# Altium schematic symbol library Schlib1.SchLib: 8 symbols
Pins are listed as number, name and electrical type; pins without a type are passive.

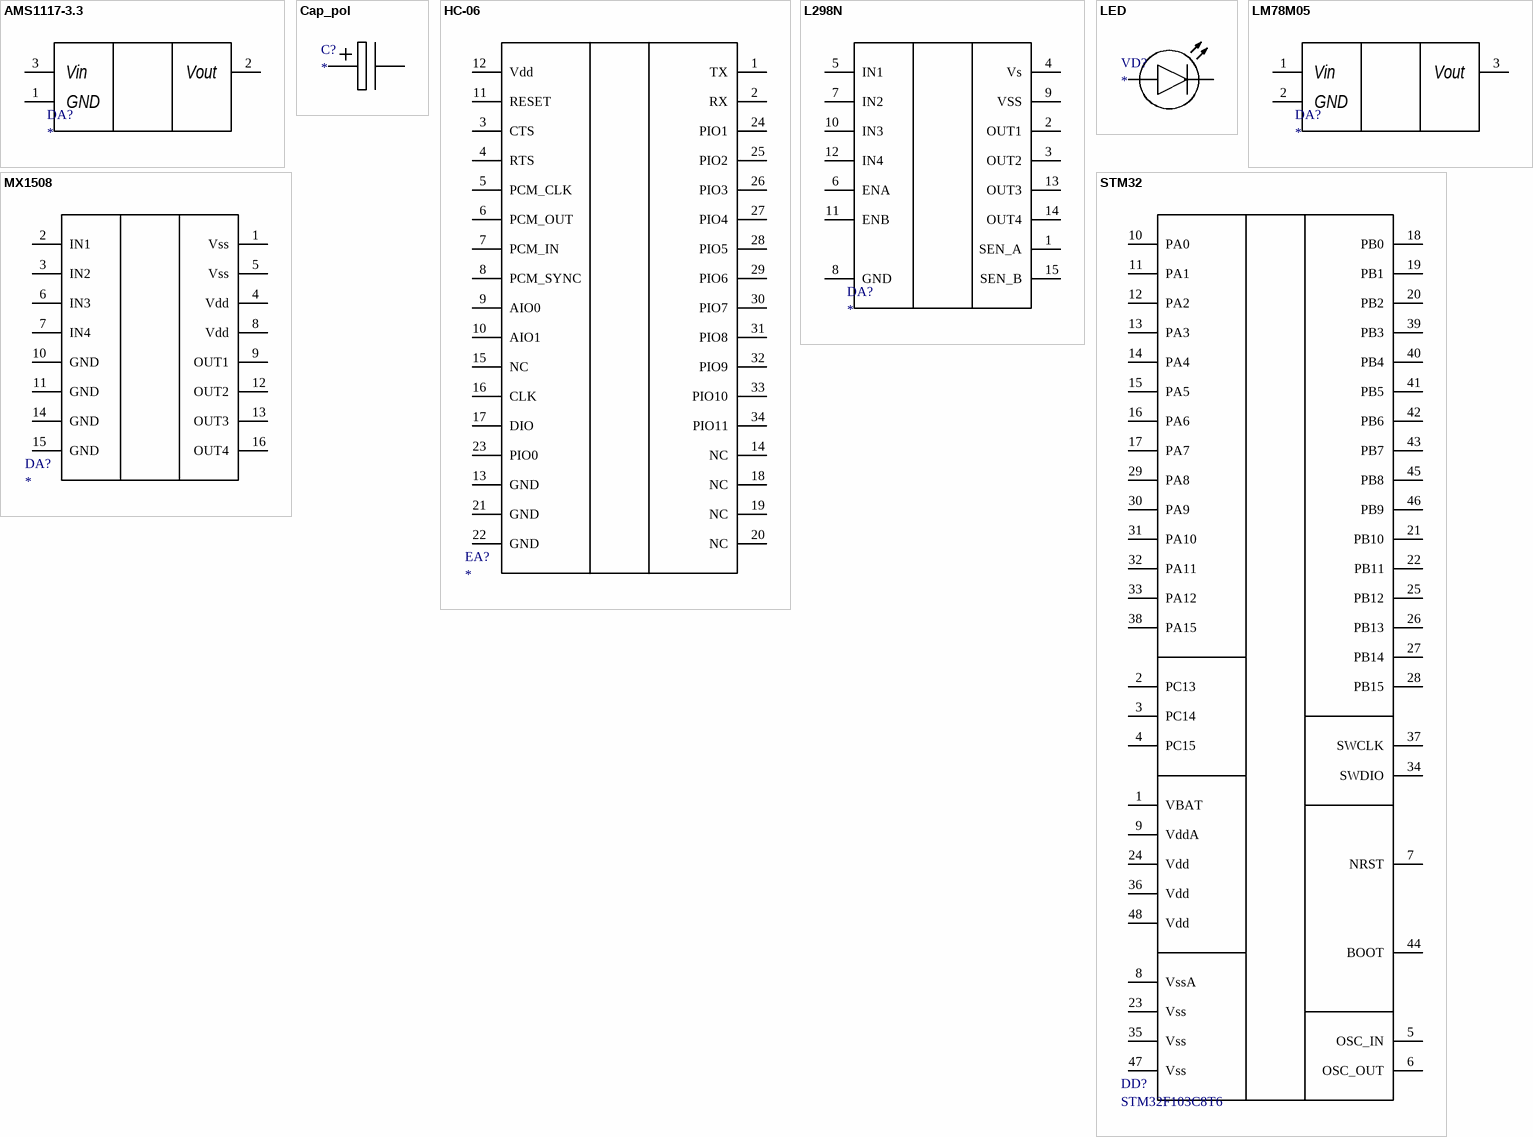
[diagram p0: symbols AMS1117-3.3 to STM32]

## AMS1117-3.3
designator DA?
footprint SOT-223 (SOT-223/SC-73; 4 Leads; Body 6.7 x 7.3 mm, inc. leads (LxW max))
pins: 1, 2, 3
text: Vin; Vout; GND

## Cap_pol
designator C?
footprint Cap_smd
pins: 1 3, 2 4

## HC-06
designator EA?
footprint HC-06
pins: 1 TX, 2 RX, 3 CTS, 4 RTS, 5 PCM_CLK, 6 PCM_OUT, 7 PCM_IN, 8 PCM_SYNC, 9 AIO0, 10 AIO1, 11 RESET, 12 Vdd, 13 GND, 14 NC, 15 NC, 16 CLK, 17 DIO, 18 NC, 19 NC, 20 NC, 21 GND, 22 GND, 23 PIO0, 24 PIO1, 25 PIO2, 26 PIO3, 27 PIO4, 28 PIO5, 29 PIO6, 30 PIO7, 31 PIO8, 32 PIO9, 33 PIO10, 34 PIO11

## L298N
designator DA?
footprint L298N
pins: 1 SEN_A, 2 OUT1, 3 OUT2, 4 Vs, 5 IN1, 6 ENA, 7 IN2, 8 GND, 9 VSS, 10 IN3, 11 ENB, 12 IN4, 13 OUT3, 14 OUT4, 15 SEN_B

## LED
designator VD?
footprint LD0805
footprint LD1206
pins: 1 A, 2 K

## LM78M05
designator DA?
footprint TO252
pins: 1, 2, 3
text: Vin; Vout; GND

## MX1508
designator DA?
footprint SO-16
pins: 1 Vss, 2 IN1, 3 IN2, 4 Vdd, 5 Vss, 6 IN3, 7 IN4, 8 Vdd, 9 OUT1, 10 GND, 11 GND, 12 OUT2, 13 OUT3, 14 GND, 15 GND, 16 OUT4

## STM32
designator DD?, comment STM32F103C8T6
footprint LQFP-48 (Thin QFP, 48-Leads, Body 7x7mm, Pitch 0.5mm, IPC Medium Density)
pins: 1 VBAT, 2 PC13, 3 PC14, 4 PC15, 5 OSC_IN, 6 OSC_OUT, 7 NRST, 8 VssA, 9 VddA, 10 PA0, 11 PA1, 12 PA2, 13 PA3, 14 PA4, 15 PA5, 16 PA6, 17 PA7, 18 PB0, 19 PB1, 20 PB2, 21 PB10, 22 PB11, 23 Vss, 24 Vdd, 25 PB12, 26 PB13, 27 PB14, 28 PB15, 29 PA8, 30 PA9, 31 PA10, 32 PA11, 33 PA12, 34 SWDIO, 35 Vss, 36 Vdd, 37 SWCLK, 38 PA15, 39 PB3, 40 PB4, 41 PB5, 42 PB6, 43 PB7, 44 BOOT, 45 PB8, 46 PB9, 47 Vss, 48 Vdd